# Altium footprint library LED0603_BLUE.PcbLib: 1 footprints
Each footprint in its own frame and in the unit in brackets; x right, y up, seen from the top. Pads: shape width x height; smd on the part's side, far side on the other; paste and mask are expansions set on the pad; w line width, h text height; cw(c..) or ccw(c..) is an arc to the next point about the centre after c.
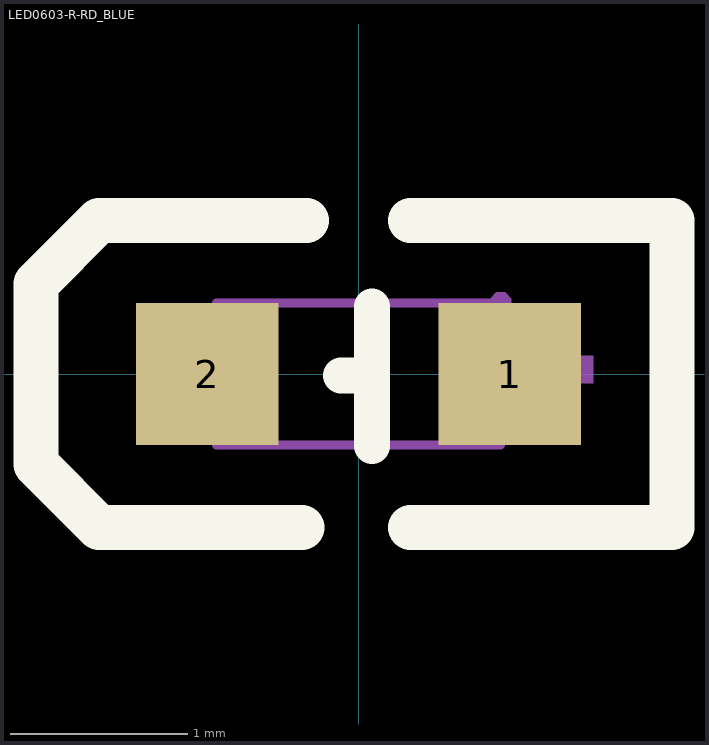
[diagram p0: the footprint, top view; thin cyan lines are the x and y axes]

## LED0603-R-RD_BLUE [mm]
pads (2):
  rect 0.8x0.8 smd paste+0 mask+0.051: 1(0.851,0) 2(-0.851,0)
Top Overlay:
  lines w0.203: -0.099,-0.008 0.076,-0.008 ; 0.076,-0.406 0.076,0.381
  lines w0.254: -0.318,-0.864 -1.46,-0.864 -1.816,-0.508 -1.816,0.508 -1.46,0.864 -0.292,0.864 ; 0.292,-0.864 1.765,-0.864 1.765,0.864 0.292,0.864
Mechanical 6:
  region: -1.193,0.05 -0.533,0.05 -0.533,-0.103 -1.193,-0.103
  region: 0.936,-0.275 0.936,0.385 1.088,0.385 1.088,-0.275
  region: 0.66,0.102 1.321,0.102 1.321,-0.051 0.66,-0.051
Mechanical 15:
  region: 0.86,0.4 0.86,0.425 0.825,0.459 0.776,0.459 0.741,0.425 0.74,0.4 0.741,0.376 0.776,0.341 0.825,0.341 0.86,0.376 0.86,0.4
  region: -0.8,-0.4 -0.8,0.4 -0.5,0.4 -0.5,-0.4
  region: 0.8,0.4 0.8,-0.4 0.5,-0.4 0.5,0.4
  lines w0.051: -0.8,-0.4 0.8,-0.4 0.8,0.4 -0.8,0.4 -0.8,-0.4
3D body "LED 0603 SMD-BLUE.STEP": height 0.53, standoff -0.01, extent -0.8,-0.4 0.8,0.4